# EAGLE library part 6120XX21721_61200821721 (library con-wurth)
WR-BHD 2.54 mm Male Angled Box Header KIND PROPERTIES: Pitch 2.54 mm Gender:Male MATERIAL PROPERTIES: Insulator Material:PBT Insulator Flammability Rating UL94 V-0 Insulator Color:Black Contact Material :Copper Alloy Contact Plating :Gold Contact Type: Stamped GENERAL INFORMATION: Operating Temperature:-40 °C up to +125 °C Compliance:RoHS Working Voltage: 250 V (AC) Withstanding Voltage:500 V (AC) Contact Resistance: 20 mΩ Insulation Resistance:1000 MΩ CERTIFICATION: UL Approval:E323964 PACKAGING PROPERTIES Packaging :Tray <https://www.we-online.de/katalog/media/o32888v209%20Family_WR-BHD_6120xx21721.jpg> Details see: https://www.we-online.de/katalog/en/em/BHD_2_54_MALE_ANGLED_BOX_HEADER_6120XX21721 Updated by Yingchun,Shan 2019-10-29 2019 (C) Würth Elektronik
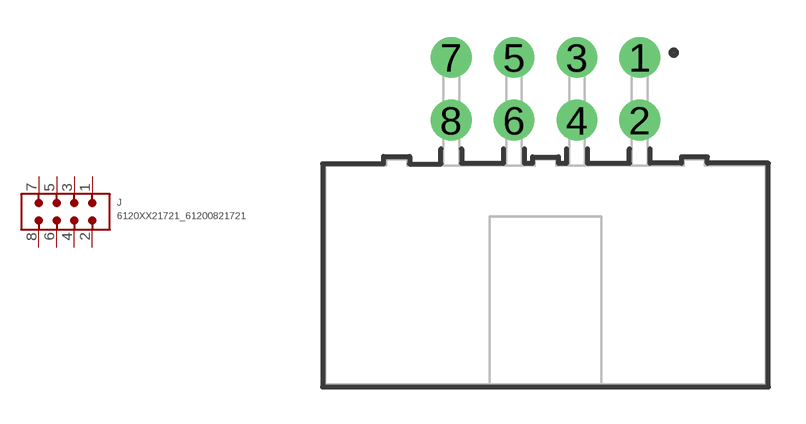
[diagram p53: symbol with the pads of 61200821721; footprint 61200821721]

Designator prefix J

## 6120XX21721_61200821721 (CONTACT-RESISTANCE: 20mOhm; DATASHEET-URL: https://www.we-online.com/redexpert/spec/61200821721?ae; GENDER: Male; IR: 3A; LENGTH: 17.82mm; MOUNT: THT; PACKAGING: Tray; PART-NUMBER: 61200821721; PINS: 8; PITCH: 2.54mm; TYPE: Angled; VALUE: 61200821721; WORKING-VOLTAGE: 250V(AC))  [61200821721]
1  1  pas
2  2  pas
3  3  pas
4  4  pas
5  5  pas
6  6  pas
7  7  pas
8  8  pas

## Footprint 61200821721 (pad centres in mm)
WR-BHD 2.54 mm Male Angled Box Header, 8 Pins
drill 1.1: 1 3.81,8.805; 2 3.81,6.265; 3 1.27,8.805; 4 1.27,6.265; 5 -1.27,8.805; 6 -1.27,6.265; 7 -3.81,8.805; 8 -3.81,6.265